# Altium schematic symbol library Schlib1.SchLib: 25 symbols
Pins are listed as number, name and electrical type; pins without a type are passive.

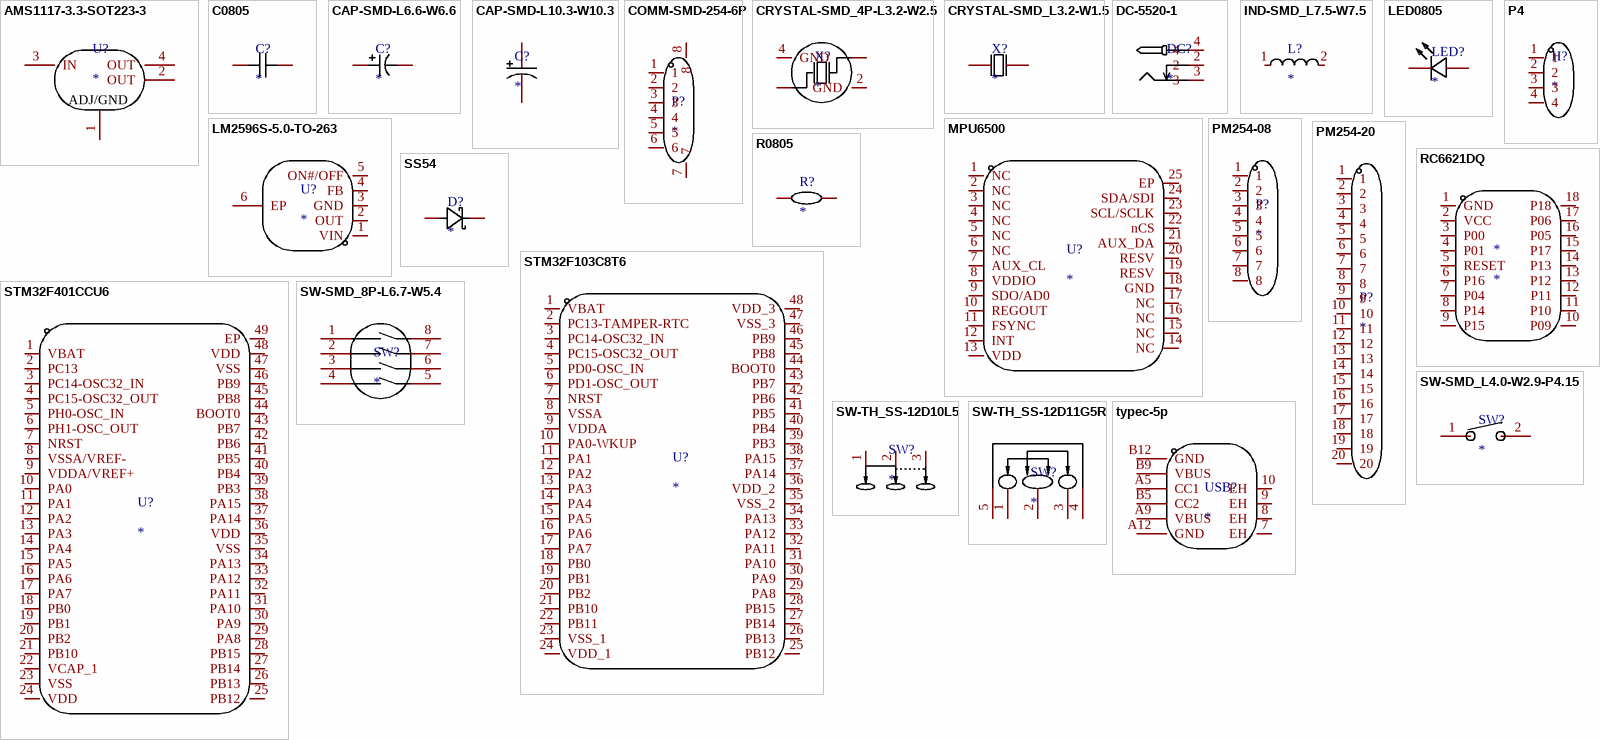
[diagram p0: symbols AMS1117-3.3-SOT223-3 to typec-5p]

## AMS1117-3.3-SOT223-3
designator U?
footprint AMS1117-3.3-SOT223-3
pins: 1 ADJ/GND, 2 OUT, 3 IN, 4 OUT

## C0805
designator C?
footprint C0805
pins: 1, 2

## CAP-SMD-L6.6-W6.6
designator C?
footprint CAP-SMD-L6.6-W6.6
pins: 1, 2

## CAP-SMD-L10.3-W10.3
designator C?
footprint CAP-SMD
pins: 1, 2

## COMM-SMD-254-6P
designator P?
footprint COMM-SMD-254-6P
pins: 1, 2, 3, 4, 5, 6, 7, 8

## CRYSTAL-SMD_4P-L3.2-W2.5
designator X?
footprint CRYSTAL-SMD_4P-L3.2-W2.5
pins: 1 OSC1, 2 GND, 3 OSC2, 4 GND

## CRYSTAL-SMD_L3.2-W1.5
designator X?
footprint CRYSTAL-SMD_L3.2-W1.5
pins: 1 OSC1, 2 OSC2

## DC-5520-1
designator DC?
footprint DC-5520-1
pins: 2, 3, 4

## IND-SMD_L7.5-W7.5
designator L?
footprint IND-SMD_L7.5-W7.5_CYH74
pins: 1, 2

## LED0805
designator LED?
footprint LED0805
pins: 1 +, 2 -

## LM2596S-5.0-TO-263
designator U?
footprint LM2596S-5.0-TO-263
pins: 1 VIN, 2 OUT, 3 GND, 4 FB, 5 ON#/OFF, 6 EP

## MPU6500
designator U?
footprint MPU6500
pins: 1 NC, 2 NC, 3 NC, 4 NC, 5 NC, 6 NC, 7 AUX_CL, 8 VDDIO, 9 SDO/AD0, 10 REGOUT, 11 FSYNC, 12 INT, 13 VDD, 14 NC, 15 NC, 16 NC, 17 NC, 18 GND, 19 RESV, 20 RESV, 21 AUX_DA, 22 nCS, 23 SCL/SCLK, 24 SDA/SDI, 25 EP

## P4
designator H?
footprint P4
pins: 1, 2, 3, 4

## PM254-08
designator P?
footprint PM254-08
pins: 1, 2, 3, 4, 5, 6, 7, 8

## PM254-20
designator P?
footprint PM254-20
pins: 1, 2, 3, 4, 5, 6, 7, 8, 9, 10, 11, 12, 13, 14, 15, 16, 17, 18, 19, 20

## R0805
designator R?
footprint R0805
pins: 1, 2

## RC6621DQ
designator *
footprint RC6621DQ
pins: 1 GND, 2 VCC, 3 P00, 4 P01, 5 RESET, 6 P16, 7 P04, 8 P14, 9 P15, 10 P09, 11 P10, 12 P11, 13 P12, 14 P13, 15 P17, 16 P05, 17 P06, 18 P18

## SS54
designator D?
footprint SS54
pins: 1 A, 2 K

## STM32F103C8T6
designator U?
footprint STM32F103C8T6
pins: 1 VBAT, 2 PC13-TAMPER-RTC, 3 PC14-OSC32_IN, 4 PC15-OSC32_OUT, 5 PD0-OSC_IN, 6 PD1-OSC_OUT, 7 NRST, 8 VSSA, 9 VDDA, 10 PA0-WKUP, 11 PA1, 12 PA2, 13 PA3, 14 PA4, 15 PA5, 16 PA6, 17 PA7, 18 PB0, 19 PB1, 20 PB2, 21 PB10, 22 PB11, 23 VSS_1, 24 VDD_1, 25 PB12, 26 PB13, 27 PB14, 28 PB15, 29 PA8, 30 PA9, 31 PA10, 32 PA11, 33 PA12, 34 PA13, 35 VSS_2, 36 VDD_2, 37 PA14, 38 PA15, 39 PB3, 40 PB4, 41 PB5, 42 PB6, 43 PB7, 44 BOOT0, 45 PB8, 46 PB9, 47 VSS_3, 48 VDD_3

## STM32F401CCU6
designator U?
footprint STM32F401CCU6
pins: 1 VBAT, 2 PC13, 3 PC14-OSC32_IN, 4 PC15-OSC32_OUT, 5 PH0-OSC_IN, 6 PH1-OSC_OUT, 7 NRST, 8 VSSA/VREF-, 9 VDDA/VREF+, 10 PA0, 11 PA1, 12 PA2, 13 PA3, 14 PA4, 15 PA5, 16 PA6, 17 PA7, 18 PB0, 19 PB1, 20 PB2, 21 PB10, 22 VCAP_1, 23 VSS, 24 VDD, 25 PB12, 26 PB13, 27 PB14, 28 PB15, 29 PA8, 30 PA9, 31 PA10, 32 PA11, 33 PA12, 34 PA13, 35 VSS, 36 VDD, 37 PA14, 38 PA15, 39 PB3, 40 PB4, 41 PB5, 42 PB6, 43 PB7, 44 BOOT0, 45 PB8, 46 PB9, 47 VSS, 48 VDD, 49 EP

## SW-SMD_8P-L6.7-W5.4
designator SW?
footprint SW-SMD_8P-L6.7-W5.4
pins: 1, 2, 3, 4, 5, 6, 7, 8

## SW-SMD_L4.0-W2.9-P4.15
designator SW?
footprint SW-SMD_L4.0-W2.9-P4.15
pins: 1, 2

## SW-TH_SS-12D10L5
designator SW?
footprint SW-TH_SS-12D10L5
pins: 1, 2, 3

## SW-TH_SS-12D11G5R
designator SW?
footprint SW-TH_SS-12D11G5R
pins: 1, 2, 3, 4, 5

## typec-5p
designator USB?
footprint typec-5p
pins: 7 EH, 8 EH, 9 EH, 10 EH, A5 CC1, A9 VBUS, A12 GND, B5 CC2, B9 VBUS, B12 GND